# Altium integrated library Infineon_Power_MOSFET.IntLib: 1448 symbols (part 11 of 47)
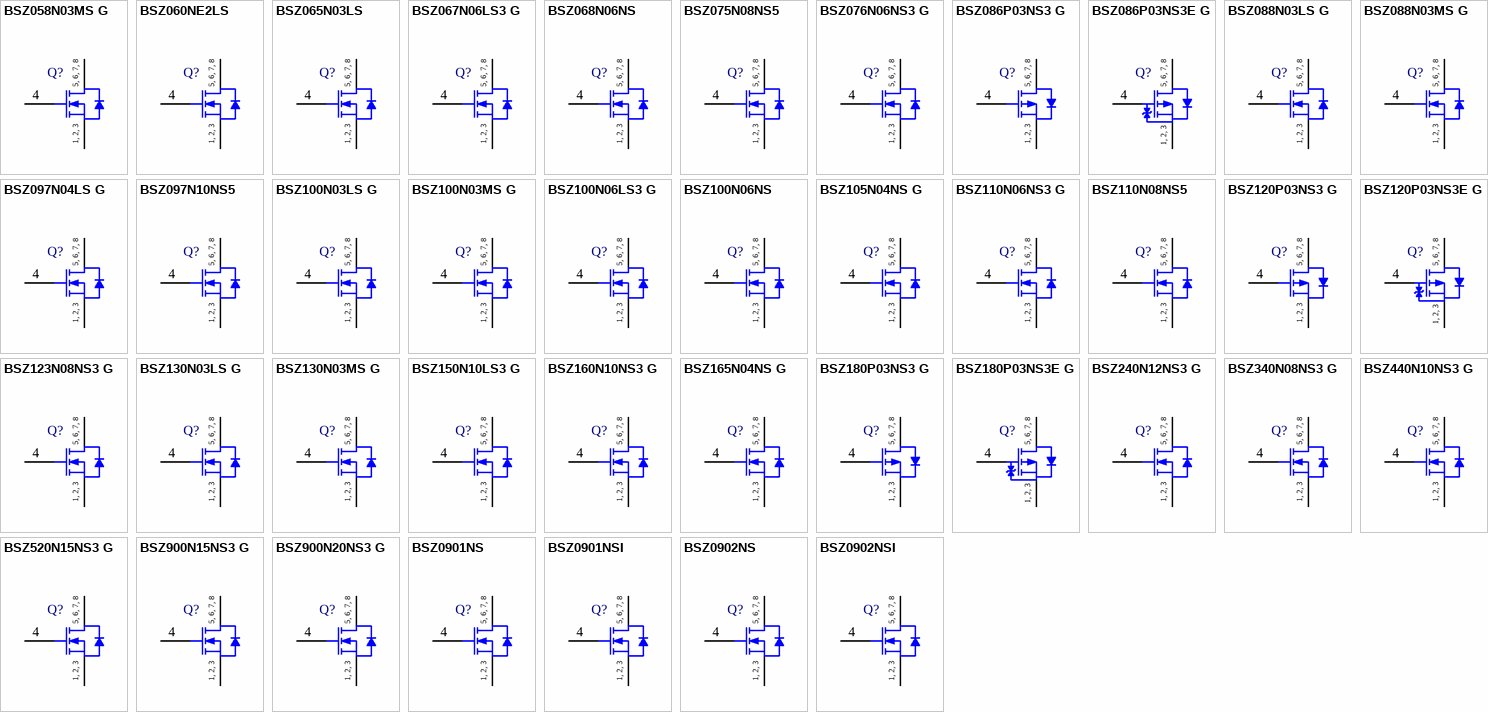
[diagram p47: symbols BSZ058N03MS G to BSZ0902NSI]

## BSZ123N08NS3 G
designator Q?
N-Channel OptiMOS 3 Power-Transistor, 80 V VDS, 40 A ID, -55 to 150 degC, PG-TSDSON-8-21, Reel, Green; Manufacturer: Infineon; PartNumber: BSZ123N08NS3 G; Green: TRUE; ID (max): 40 A; IDpuls (max): 160 A; Polarity: N; Ptot (max): 66 W; QG: 19 nC; RDS (on) (max): 12.3 mOhm; Rth: 1.9 K/W; RthJA (max): 60 K/W; VDS (max): 80 V; VGS(th) (max): 3.5 V; VGS(th) (min): 2 V; DatasheetVersion: Rev. 2.4; PackageVersion: Rev. 01, 03/2007; PackageReference: PG-TSDSON-8-21; PackageDescription: 8-Pin Plastic (Green) Small Outline Non-Leaded Package, 3.3 x 3.3 mm Body, 0.65 mm Pitch; Supplier 1: Mouser; Supplier Part Number 1: 726-BSZ123N08NS3G; Supplier 2: Newark; Supplier Part Number 2: 60R2542; Supplier 3: Farnell; Supplier Part Number 3: 1775505; Supplier 4: Digi-Key; Supplier Part Number 4: BSZ123N08NS3GINTR-ND; Supplier 5: Digi-Key; Supplier Part Number 5: BSZ123N08NS3GINCT-ND; Supplier 6: Digi-Key; Supplier Part Number 6: BSZ123N08NS3GINDKR-ND; Halogen-free: TRUE; Packing: Reel; RthJC (max): 1.9 K/W; Mounting Technology: Surface Mount; ComponentLink1Description: Manufacturer URL; ComponentLink1URL: http://www.infineon.com/; ComponentLink2Description: Datasheet; ComponentLink2URL: http://www.infineon.com/dgdl/BSZ123N08NS3G_rev2.4.pdf?folderId=db3a304313b8b5a60113cee8763b02d7&fileId=db3a30431ddc9372011e5ec96fdc0a00; ComponentLink3Description: Package Specification; ComponentLink3URL: http://www.infineon.com/dgdl/BSZ110N06NS3_Rev2.4.pdf?folderId=db3a30431ddc9372011ebafa04517f8b&fileId=db3a30431ddc9372011ebb15d4e8001a
footprint INF-PG-TSDSON-8-21_V (SON, 8-Leads, Body 3.3x3.3mm, Pitch 0.65mm)
pins: 1 SOURCE, 2 SOURCE, 3 SOURCE, 4 GATE, 5 DRAIN, 6 DRAIN, 7 DRAIN, 8 DRAIN
text: 5, 6, 7, 8; 1, 2, 3

## BSZ130N03LS G
designator Q?
N-Channel OptiMOS 3 Power-MOSFET, 30 V VDS, 35 A ID, -55 to 150 degC, PG-TSDSON-8-1, Reel, Green; Manufacturer: Infineon; PartNumber: BSZ130N03LS G; Green: TRUE; ID (max): 35 A; IDpuls (max): 140 A; Polarity: N; Ptot (max): 25 W; QG: 5 nC; RDS (on) (max): 13 mOhm; RDS (on) (max) (@4.5V): 17 mOhm; Rth: 5 K/W; RthJA (max): 60 K/W; VDS (max): 30 V; VGS(th) (max): 2.2 V; VGS(th) (min): 1 V; DatasheetVersion: Rev. 2.0; PackageVersion: Rev. 01, 03/2007; PackageReference: PG-TSDSON-8-1; PackageDescription: 8-Pin Plastic (Green) Thin Dual Small Outline Non-Leaded Package, 3.3 x 3.3 mm Body, 0.65 mm Pitch; Supplier 1: Mouser; Supplier Part Number 1: 726-BSZ130N03LSG; Supplier 2: Digi-Key; Supplier Part Number 2: BSZ130N03LSGINTR-ND; Supplier 3: Digi-Key; Supplier Part Number 3: BSZ130N03LSGINCT-ND; Supplier 4: Digi-Key; Supplier Part Number 4: BSZ130N03LSGINDKR-ND; Halogen-free: TRUE; Packing: Reel; RthJC (max): 5 K/W; Mounting Technology: Surface Mount; ComponentLink1Description: Manufacturer URL; ComponentLink1URL: http://www.infineon.com/; ComponentLink2Description: Datasheet; ComponentLink2URL: http://www.infineon.com/dgdl/BSZ130N03LS_rev2.pdf?folderId=db3a304313b8b5a60113cee8ed2a02db&fileId=db3a304313b8b5a60113d4035f8203fc; ComponentLink3Description: Package Specification; ComponentLink3URL: http://www.infineon.com/dgdl/BSZ100N06LS3_rev2.3.pdf?folderId=db3a30431ddc9372011ebafa04517f8b&fileId=db3a30431ddc9372011ebb132c97000a
footprint INF-PG-TSDSON-8-1_A_V (TSDSON, 8-Leads, Body 3.3x3.3mm, Pitch 0.65mm)
pins: 1 SOURCE, 2 SOURCE, 3 SOURCE, 4 GATE, 5 DRAIN, 6 DRAIN, 7 DRAIN, 8 DRAIN
text: 5, 6, 7, 8; 1, 2, 3

## BSZ130N03MS G
designator Q?
N-Channel OptiMOS 3 M-Series Power-MOSFET, 30 V VDS, 35 A ID, -55 to 150 degC, PG-TSDSON-8-1, Reel, Green; Manufacturer: Infineon; PartNumber: BSZ130N03MS G; Green: TRUE; ID (max): 35 A; IDpuls (max): 140 A; Polarity: N; Ptot (max): 25 W; QG: 6.1 nC; RDS (on) (max): 11.5 mOhm; RDS (on) (max) (@4.5V): 15 mOhm; Rth: 5 K/W; RthJA (max): 60 K/W; VDS (max): 30 V; VGS(th) (max): 2 V; VGS(th) (min): 1 V; DatasheetVersion: Rev. 2.0; PackageVersion: Rev. 01, 03/2007; PackageReference: PG-TSDSON-8-1; PackageDescription: 8-Pin Plastic (Green) Thin Dual Small Outline Non-Leaded Package, 3.3 x 3.3 mm Body, 0.65 mm Pitch; Supplier 1: Mouser; Supplier Part Number 1: 726-BSZ130N03MSG; Supplier 2: Farnell; Supplier Part Number 2: 1775507; Supplier 3: Digi-Key; Supplier Part Number 3: BSZ130N03MSGINTR-ND; Supplier 4: Digi-Key; Supplier Part Number 4: BSZ130N03MSGINCT-ND; Supplier 5: Digi-Key; Supplier Part Number 5: BSZ130N03MSGINDKR-ND; Halogen-free: TRUE; Packing: Reel; RthJC (max): 5 K/W; Mounting Technology: Surface Mount; ComponentLink1Description: Manufacturer URL; ComponentLink1URL: http://www.infineon.com/; ComponentLink2Description: Datasheet; ComponentLink2URL: http://www.infineon.com/dgdl/BSZ130N03MSG_rev2.pdf?folderId=db3a304313d846880113d91d60c500c4&fileId=db3a304313d846880113de3b1fda0321; ComponentLink3Description: Package Specification; ComponentLink3URL: http://www.infineon.com/dgdl/BSZ100N06LS3_rev2.3.pdf?folderId=db3a30431ddc9372011ebafa04517f8b&fileId=db3a30431ddc9372011ebb132c97000a
footprint INF-PG-TSDSON-8-1_A_V (TSDSON, 8-Leads, Body 3.3x3.3mm, Pitch 0.65mm)
pins: 1 SOURCE, 2 SOURCE, 3 SOURCE, 4 GATE, 5 DRAIN, 6 DRAIN, 7 DRAIN, 8 DRAIN
text: 5, 6, 7, 8; 1, 2, 3

## BSZ150N10LS3 G
designator Q?
N-Channel OptiMOS 3 Power-Transistor, 100 V VDS, 40 A ID, -55 to 150 degC, PG-TSDSON-8-1, Reel, Green; Manufacturer: Infineon; PartNumber: BSZ150N10LS3 G; Green: TRUE; ID (max): 40 A; IDpuls (max): 160 A; Polarity: N; Ptot (max): 63 W; QG: 26 nC; RDS (on) (max): 15 mOhm; RDS (on) (max) (@4.5V): 20 mOhm; Rth: 2 K/W; RthJA (max): 62 K/W; VDS (max): 100 V; VGS(th) (max): 2.1 V; VGS(th) (min): 1.1 V; DatasheetVersion: Rev. 2.2; PackageVersion: Rev. 01, 03/2007; PackageReference: PG-TSDSON-8-1; PackageDescription: 8-Pin Plastic (Green) Thin Dual Small Outline Non-Leaded Package, 3.3 x 3.3 mm Body, 0.65 mm Pitch; Halogen-free: TRUE; Packing: Reel; RthJC (max): 2 K/W; Mounting Technology: Surface Mount; ComponentLink1Description: Manufacturer URL; ComponentLink1URL: http://www.infineon.com/; ComponentLink2Description: Datasheet; ComponentLink2URL: http://www.infineon.com/dgdl/BSZ150N10LS3+G_rev2.2.pdf?folderId=db3a304313b8b5a60113cee8763b02d7&fileId=db3a30433c8a9179013c8aa12472000f; ComponentLink3Description: Package Specification; ComponentLink3URL: http://www.infineon.com/dgdl/BSZ100N06LS3_rev2.3.pdf?folderId=db3a30431ddc9372011ebafa04517f8b&fileId=db3a30431ddc9372011ebb132c97000a
footprint INF-PG-TSDSON-8-1_A_V (TSDSON, 8-Leads, Body 3.3x3.3mm, Pitch 0.65mm)
pins: 1 SOURCE, 2 SOURCE, 3 SOURCE, 4 GATE, 5 DRAIN, 6 DRAIN, 7 DRAIN, 8 DRAIN
text: 5, 6, 7, 8; 1, 2, 3

## BSZ160N10NS3 G
designator Q?
N-Channel OptiMOS 3 Power-Transistor, 100 V VDS, 40 A ID, -55 to 150 degC, PG-TSDSON-8-1, Reel, Green; Manufacturer: Infineon; PartNumber: BSZ160N10NS3 G; Green: TRUE; ID (max): 40 A; IDpuls (max): 160 A; Polarity: N; Ptot (max): 63 W; QG: 19 nC; RDS (on) (max): 16 mOhm; Rth: 2.1 K/W; RthJA (max): 62 K/W; VDS (max): 100 V; VGS(th) (max): 3.5 V; VGS(th) (min): 2 V; DatasheetVersion: Rev. 1.2; PackageVersion: Rev. 02, 09/2008; PackageReference: PG-TSDSON-8-1; PackageDescription: 8-Pin Plastic (Green) Thin Dual Small Outline Non-Leaded Package, 3.3 x 3.3 mm Body, 0.65 mm Pitch; Supplier 1: Mouser; Supplier Part Number 1: 726-BSZ160N10NS3G; Supplier 2: Newark; Supplier Part Number 2: 47W3365; Supplier 3: Farnell; Supplier Part Number 3: 2212820; Supplier 4: Digi-Key; Supplier Part Number 4: BSZ160N10NS3 GINTR-ND; Supplier 5: Digi-Key; Supplier Part Number 5: BSZ160N10NS3 GINCT-ND; Supplier 6: Digi-Key; Supplier Part Number 6: BSZ160N10NS3 GINDKR-ND; Halogen-free: TRUE; Packing: Reel; RthJC (max): 2.1 K/W; Mounting Technology: Surface Mount; ComponentLink1Description: Manufacturer URL; ComponentLink1URL: http://www.infineon.com/; ComponentLink2Description: Datasheet; ComponentLink2URL: http://www.infineon.com/dgdl/BSZ160N10N3SG_rev1.2.pdf?folderId=db3a304313b8b5a60113cee8763b02d7&fileId=db3a304320896aa20120c3365eef2370; ComponentLink3Description: Package Specification; ComponentLink3URL: http://www.infineon.com/dgdl/BSZ240N12NS3+Rev2.0.pdf?folderId=db3a304313b8b5a60113cee8763b02d7&fileId=db3a30432a40a650012a42f3057a0038
footprint INF-PG-TSDSON-8-1_V (TSDSON, 8-Leads, Body 3.3x3.3mm, Pitch 0.65mm)
pins: 1 SOURCE, 2 SOURCE, 3 SOURCE, 4 GATE, 5 DRAIN, 6 DRAIN, 7 DRAIN, 8 DRAIN
text: 5, 6, 7, 8; 1, 2, 3

## BSZ165N04NS G
designator Q?
N-Channel OptiMOS 3 Power-Transistor, 40 V VDS, 31 A ID, -55 to 150 degC, PG-TSDSON-8-1, Reel, Green; Manufacturer: Infineon; PartNumber: BSZ165N04NS G; Green: TRUE; ID (max): 31 A; IDpuls (max): 124 A; Polarity: N; Ptot (max): 25 W; QG: 7.8 nC; RDS (on) (max): 16.5 mOhm; Rth: 5 K/W; RthJA (max): 60 K/W; VDS (max): 40 V; VGS(th) (max): 4 V; VGS(th) (min): 2 V; DatasheetVersion: Rev. 2.0; PackageVersion: Rev. 01, 03/2007; PackageReference: PG-TSDSON-8-1; PackageDescription: 8-Pin Plastic (Green) Thin Dual Small Outline Non-Leaded Package, 3.3 x 3.3 mm Body, 0.65 mm Pitch; Supplier 1: Mouser; Supplier Part Number 1: 726-BSZ165N04NSG; Supplier 2: Newark; Supplier Part Number 2: 60R2545; Supplier 3: Farnell; Supplier Part Number 3: 1775508; Supplier 4: Digi-Key; Supplier Part Number 4: BSZ165N04NSGINTR-ND; Supplier 5: Digi-Key; Supplier Part Number 5: BSZ165N04NSGINCT-ND; Supplier 6: Digi-Key; Supplier Part Number 6: BSZ165N04NSGINDKR-ND; Halogen-free: TRUE; Packing: Reel; RthJC (max): 5 K/W; Mounting Technology: Surface Mount; ComponentLink1Description: Manufacturer URL; ComponentLink1URL: http://www.infineon.com/; ComponentLink2Description: Datasheet; ComponentLink2URL: http://www.infineon.com/dgdl/BSZ165N04NSG_rev2.pdf?folderId=db3a3043156fd5730115c7d50620107c&fileId=db3a30431689f4420116c48a64960872; ComponentLink3Description: Package Specification; ComponentLink3URL: http://www.infineon.com/dgdl/BSZ100N06LS3_rev2.3.pdf?folderId=db3a30431ddc9372011ebafa04517f8b&fileId=db3a30431ddc9372011ebb132c97000a
footprint INF-PG-TSDSON-8-1_A_V (TSDSON, 8-Leads, Body 3.3x3.3mm, Pitch 0.65mm)
pins: 1 SOURCE, 2 SOURCE, 3 SOURCE, 4 GATE, 5 DRAIN, 6 DRAIN, 7 DRAIN, 8 DRAIN
text: 5, 6, 7, 8; 1, 2, 3

## BSZ180P03NS3 G
designator Q?
P-Channel OptiMOS P3 Power-Transistor, -30 V VDS, -39.6 A ID, -55 to 150 degC, PG-TSDSON-8-1, Reel, Green; Manufacturer: Infineon; PartNumber: BSZ180P03NS3 G; Green: TRUE; ID (max): -39.6 A; IDpuls (max): -158 A; Pto t (max): 40 W; QG: 20 nC; RDS (on) (max): 18 mOhm; Rth: 3.1 K/W; VDS (max): -30 V; VGS(th) (max): -1.9 V; VGS(th) (min): -3.1 V; DatasheetVersion: Rev. 2.1; PackageVersion: Rev. 02, 09/2008; PackageReference: PG-TSDSON-8-1; PackageDescription: 8-Pin Plastic (Green) Thin Dual Small Outline Non-Leaded Package, 3.3 x 3.3 mm Body, 0.65 mm Pitch; Supplier 1: Mouser; Supplier Part Number 1: 726-BSZ180P03NS3G; Supplier 2: Digi-Key; Supplier Part Number 2: BSZ180P03NS3 G-ND; Halogen-free: TRUE; Packing: Reel; RthJC (max): 3.1 K/W; Mounting Technology: Surface Mount; ComponentLink1Description: Manufacturer URL; ComponentLink1URL: http://www.infineon.com/; ComponentLink2Description: Datasheet; ComponentLink2URL: http://www.infineon.com/dgdl/BSZ180P03NS3+G_2+1.pdf?folderId=db3a304314dca38901154a7313d21a66&fileId=db3a304326dfb13001271f04398f4ec1; ComponentLink3Description: Package Specification; ComponentLink3URL: http://www.infineon.com/dgdl/BSZ240N12NS3+Rev2.0.pdf?folderId=db3a304313b8b5a60113cee8763b02d7&fileId=db3a30432a40a650012a42f3057a0038
footprint INF-PG-TSDSON-8-1_V (TSDSON, 8-Leads, Body 3.3x3.3mm, Pitch 0.65mm)
pins: 1 SOURCE, 2 SOURCE, 3 SOURCE, 4 GATE, 5 DRAIN, 6 DRAIN, 7 DRAIN, 8 DRAIN
text: 5, 6, 7, 8; 1, 2, 3

## BSZ180P03NS3E G
designator Q?
P-Channel OptiMOS P3 Power-Transistor, -30 V VDS, -39.6 A ID, -55 to 150 degC, PG-TSDSON-8-1, Reel, Green; Manufacturer: Infineon; PartNumber: BSZ180P03NS3E G; Green: TRUE; ID (max): -39.6 A; IDpuls (max): -158 A; Pto t (max): 40 W; QG: 20 nC; RDS (on) (max): 18 mOhm; Rth: 3.1 K/W; VDS (max): -30 V; VGS(th) (max): -1.9 V; VGS(th) (min): -3.1 V; DatasheetVersion: Rev. 2.1; PackageVersion: Rev. 02, 09/2008; PackageReference: PG-TSDSON-8-1; PackageDescription: 8-Pin Plastic (Green) Thin Dual Small Outline Non-Leaded Package, 3.3 x 3.3 mm Body, 0.65 mm Pitch; Supplier 1: Mouser; Supplier Part Number 1: 726-BSZ180P03NS3EG; Supplier 2: Digi-Key; Supplier Part Number 2: BSZ180P03NS3E G-ND; Halogen-free: TRUE; Packing: Reel; RthJC (max): 3.1 K/W; Mounting Technology: Surface Mount; ComponentLink1Description: Manufacturer URL; ComponentLink1URL: http://www.infineon.com/; ComponentLink2Description: Datasheet; ComponentLink2URL: http://www.infineon.com/dgdl/BSZ180P03NS3E+G_2.1.pdf?folderId=db3a304314dca38901154a7313d21a66&fileId=db3a304324fc7f9a0124fdf6df190050; ComponentLink3Description: Package Specification; ComponentLink3URL: http://www.infineon.com/dgdl/BSZ240N12NS3+Rev2.0.pdf?folderId=db3a304313b8b5a60113cee8763b02d7&fileId=db3a30432a40a650012a42f3057a0038
footprint INF-PG-TSDSON-8-1_V (TSDSON, 8-Leads, Body 3.3x3.3mm, Pitch 0.65mm)
pins: 1 S, 2 S, 3 S, 4 G, 5 D, 6 D, 7 D, 8 D
text: 5, 6, 7, 8; 1, 2, 3

## BSZ240N12NS3 G
designator Q?
N-Channel OptiMOS 3 Power-Transistor, 120 V VDS, 37 A ID, -55 to 150 degC, PG-TSDSON-8-1, Reel, Green; Manufacturer: Infineon; PartNumber: BSZ240N12NS3 G; Green: TRUE; ID (max): 37 A; IDpuls (max): 148 A; Polarity: N; Ptot (max): 66 W; QG: 20 nC; RDS (on) (max): 24 mOhm; Rth: 1.9 K/W; RthJA (max): 60 K/W; VDS (max): 120 V; VGS(th) (max): 4 V; VGS(th) (min): 2 V; DatasheetVersion: Rev. 2.0; PackageVersion: Rev. 01, 03/2007; PackageReference: PG-TSDSON-8-1; PackageDescription: 8-Pin Plastic (Green) Thin Dual Small Outline Non-Leaded Package, 3.3 x 3.3 mm Body, 0.65 mm Pitch; Supplier 1: Mouser; Supplier Part Number 1: 726-BSZ240N12NS3G; Supplier 2: Digi-Key; Supplier Part Number 2: BSZ240N12NS3 GTR-ND; Supplier 3: Digi-Key; Supplier Part Number 3: BSZ240N12NS3 GCT-ND; Supplier 4: Digi-Key; Supplier Part Number 4: BSZ240N12NS3 GDKR-ND; Halogen-free: TRUE; Packing: Reel; RthJC (max): 1.9 K/W; Mounting Technology: Surface Mount; ComponentLink1Description: Manufacturer URL; ComponentLink1URL: http://www.infineon.com/; ComponentLink2Description: Datasheet; ComponentLink2URL: http://www.infineon.com/dgdl/BSZ240N12NS3+Rev2.pdf?folderId=db3a304313b8b5a60113cee8763b02d7&fileId=db3a30432a40a650012a42f3057a0038; ComponentLink3Description: Package Specification; ComponentLink3URL: http://www.infineon.com/dgdl/BSZ100N06LS3_rev2.3.pdf?folderId=db3a30431ddc9372011ebafa04517f8b&fileId=db3a30431ddc9372011ebb132c97000a
footprint INF-PG-TSDSON-8-1_A_V (TSDSON, 8-Leads, Body 3.3x3.3mm, Pitch 0.65mm)
pins: 1 SOURCE, 2 SOURCE, 3 SOURCE, 4 GATE, 5 DRAIN, 6 DRAIN, 7 DRAIN, 8 DRAIN
text: 5, 6, 7, 8; 1, 2, 3

## BSZ340N08NS3 G
designator Q?
N-Channel OptiMOS 3 Power-Transistor, 80 V VDS, 23 A ID, -55 to 150 degC, PG-TSDSON-8-1, Reel, Green; Manufacturer: Infineon; PartNumber: BSZ340N08NS3 G; Green: TRUE; ID (max): 23 A; IDpuls (max): 92 A; Polarity: N; Ptot (max): 32 W; QG: 6.8 nC; RDS (on) (max): 34 mOhm; RDS (on) (max) (@4.5V): 66 mOhm; Rth: 3.9 K/W; RthJA (max): 60 K/W; VDS (max): 80 V; VGS(th) (max): 3.5 V; VGS(th) (min): 2 V; DatasheetVersion: Rev. 2.3; PackageVersion: Rev. 02, 09/2008; PackageReference: PG-TSDSON-8-1; PackageDescription: 8-Pin Plastic (Green) Thin Dual Small Outline Non-Leaded Package, 3.3 x 3.3 mm Body, 0.65 mm Pitch; Supplier 1: Mouser; Supplier Part Number 1: 726-BSZ340N08NS3G; Supplier 2: Newark; Supplier Part Number 2: 47W3366; Supplier 3: Farnell; Supplier Part Number 3: 2212852; Supplier 4: Digi-Key; Supplier Part Number 4: BSZ340N08NS3GINTR-ND; Supplier 5: Digi-Key; Supplier Part Number 5: BSZ340N08NS3GINCT-ND; Supplier 6: Digi-Key; Supplier Part Number 6: BSZ340N08NS3GINDKR-ND; Halogen-free: TRUE; Packing: Reel; RthJC (max): 3.9 K/W; Mounting Technology: Surface Mount; ComponentLink1Description: Manufacturer URL; ComponentLink1URL: http://www.infineon.com/; ComponentLink2Description: Datasheet; ComponentLink2URL: http://www.infineon.com/dgdl/BSZ340N08NS3G_rev2.3.pdf?folderId=db3a304313b8b5a60113cee8763b02d7&fileId=db3a30431ff9881501206626660b6c72; ComponentLink3Description: Package Specification; ComponentLink3URL: http://www.infineon.com/dgdl/BSZ240N12NS3+Rev2.0.pdf?folderId=db3a304313b8b5a60113cee8763b02d7&fileId=db3a30432a40a650012a42f3057a0038
footprint INF-PG-TSDSON-8-1_V (TSDSON, 8-Leads, Body 3.3x3.3mm, Pitch 0.65mm)
pins: 1 SOURCE, 2 SOURCE, 3 SOURCE, 4 GATE, 5 DRAIN, 6 DRAIN, 7 DRAIN, 8 DRAIN
text: 5, 6, 7, 8; 1, 2, 3

## BSZ440N10NS3 G
designator Q?
N-Channel OptiMOS 3 Power-Transistor, 100 V VDS, 18 A ID, -55 to 150 degC, PG-TSDSON-8-1, Reel, Green; Manufacturer: Infineon; PartNumber: BSZ440N10NS3 G; Green: TRUE; ID (max): 18 A; IDpuls (max): 72 A; Polarity: N; Ptot (max): 29 W; QG: 6.8 nC; RDS (on) (max): 44 mOhm; Rth: 4.3 K/W; RthJA (max): 50 K/W; VDS (max): 100 V; VGS(th) (max): 3.5 V; VGS(th) (min): 2 V; DatasheetVersion: Rev. 2.0; PackageVersion: Rev. 02, 09/2008; PackageReference: PG-TSDSON-8-1; PackageDescription: 8-Pin Plastic (Green) Thin Dual Small Outline Non-Leaded Package, 3.3 x 3.3 mm Body, 0.65 mm Pitch; Supplier 1: Mouser; Supplier Part Number 1: 726-BSZ440N10NS3G; Supplier 2: Newark; Supplier Part Number 2: 47W3367; Supplier 3: Farnell; Supplier Part Number 3: 2212840; Supplier 4: Digi-Key; Supplier Part Number 4: BSZ440N10NS3 GINTR-ND; Supplier 5: Digi-Key; Supplier Part Number 5: BSZ440N10NS3 GINCT-ND; Supplier 6: Digi-Key; Supplier Part Number 6: BSZ440N10NS3 GINDKR-ND; Halogen-free: TRUE; Packing: Reel; RthJC (max): 4.3 K/W; Mounting Technology: Surface Mount; ComponentLink1Description: Manufacturer URL; ComponentLink1URL: http://www.infineon.com/; ComponentLink2Description: Datasheet; ComponentLink2URL: http://www.infineon.com/dgdl/BSZ440N10NS3+Rev2.pdf?folderId=db3a304313b8b5a60113cee8763b02d7&fileId=db3a304320896aa20120c32dbf312354; ComponentLink3Description: Package Specification; ComponentLink3URL: http://www.infineon.com/dgdl/BSZ240N12NS3+Rev2.0.pdf?folderId=db3a304313b8b5a60113cee8763b02d7&fileId=db3a30432a40a650012a42f3057a0038
footprint INF-PG-TSDSON-8-1_V (TSDSON, 8-Leads, Body 3.3x3.3mm, Pitch 0.65mm)
pins: 1 SOURCE, 2 SOURCE, 3 SOURCE, 4 GATE, 5 DRAIN, 6 DRAIN, 7 DRAIN, 8 DRAIN
text: 5, 6, 7, 8; 1, 2, 3

## BSZ520N15NS3 G
designator Q?
N-Channel OptiMOS 3 Power-Transistor, 150 V VDS, 21 A ID, -55 to 150 degC, PG-TSDSON-8-1, Reel, Green; Manufacturer: Infineon; PartNumber: BSZ520N15NS3 G; Green: TRUE; ID (max): 21 A; IDpuls (max): 84 A; Polarity: N; Ptot (max): 57 W; QG: 8.7 nC; RDS (on) (max): 52 mOhm; Rth: 2.2 K/W; RthJA (max): 60 K/W; VDS (max): 150 V; VGS(th) (max): 4 V; VGS(th) (min): 2 V; DatasheetVersion: Rev. 2.2; PackageVersion: Rev. 01, 03/2007; PackageReference: PG-TSDSON-8-1; PackageDescription: 8-Pin Plastic (Green) Thin Dual Small Outline Non-Leaded Package, 3.3 x 3.3 mm Body, 0.65 mm Pitch; Supplier 1: Mouser; Supplier Part Number 1: 726-BSZ520N15NS3G; Supplier 2: Newark; Supplier Part Number 2: 47W3368; Supplier 3: Farnell; Supplier Part Number 3: 2212823; Supplier 4: Digi-Key; Supplier Part Number 4: BSZ520N15NS3 GTR-ND; Supplier 5: Digi-Key; Supplier Part Number 5: BSZ520N15NS3 GCT-ND; Supplier 6: Digi-Key; Supplier Part Number 6: BSZ520N15NS3 GDKR-ND; Halogen-free: TRUE; Packing: Reel; RthJC (max): 2.2 K/W; Mounting Technology: Surface Mount; ComponentLink1Description: Manufacturer URL; ComponentLink1URL: http://www.infineon.com/; ComponentLink2Description: Datasheet; ComponentLink2URL: http://www.infineon.com/dgdl/BSZ520N15NS3+Rev2.2.pdf?folderId=db3a304326623792012669f6bee2224b&fileId=db3a30432662379201266a0dd612226c; ComponentLink3Description: Package Specification; ComponentLink3URL: http://www.infineon.com/dgdl/BSZ100N06LS3_rev2.3.pdf?folderId=db3a30431ddc9372011ebafa04517f8b&fileId=db3a30431ddc9372011ebb132c97000a
footprint INF-PG-TSDSON-8-1_A_V (TSDSON, 8-Leads, Body 3.3x3.3mm, Pitch 0.65mm)
pins: 1 SOURCE, 2 SOURCE, 3 SOURCE, 4 GATE, 5 DRAIN, 6 DRAIN, 7 DRAIN, 8 DRAIN
text: 5, 6, 7, 8; 1, 2, 3

## BSZ900N15NS3 G
designator Q?
N-Channel OptiMOS 3 Power-Transistor, 150 V VDS, 13 A ID, -55 to 150 degC, PG-TSDSON-8-1, Reel, Green; Manufacturer: Infineon; PartNumber: BSZ900N15NS3 G; Green: TRUE; ID (max): 13 A; IDpuls (max): 52 A; Polarity: N; Ptot (max): 38 W; QG: 5 nC; RDS (on) (max): 90 mOhm; Rth: 3.3 K/W; RthJA (max): 60 K/W; VDS (max): 150 V; VGS(th) (max): 4 V; VGS(th) (min): 2 V; DatasheetVersion: Rev. 2.1; PackageVersion: Rev. 02, 09/2008; PackageReference: PG-TSDSON-8-1; PackageDescription: 8-Pin Plastic (Green) Thin Dual Small Outline Non-Leaded Package, 3.3 x 3.3 mm Body, 0.65 mm Pitch; Supplier 1: Mouser; Supplier Part Number 1: 726-BSZ900N15NS3G; Supplier 2: Digi-Key; Supplier Part Number 2: BSZ900N15NS3 GTR-ND; Supplier 3: Digi-Key; Supplier Part Number 3: BSZ900N15NS3 GCT-ND; Supplier 4: Digi-Key; Supplier Part Number 4: BSZ900N15NS3 GDKR-ND; Halogen-free: TRUE; Packing: Reel; RthJC (max): 3.3 K/W; Mounting Technology: Surface Mount; ComponentLink1Description: Manufacturer URL; ComponentLink1URL: http://www.infineon.com/; ComponentLink2Description: Datasheet; ComponentLink2URL: http://www.infineon.com/dgdl/BSZ900N15NS3+Rev2.1_.pdf?folderId=db3a304326623792012669f6bee2224b&fileId=db3a304326623792012669f7decc224c; ComponentLink3Description: Package Specification; ComponentLink3URL: http://www.infineon.com/dgdl/BSZ240N12NS3+Rev2.0.pdf?folderId=db3a304313b8b5a60113cee8763b02d7&fileId=db3a30432a40a650012a42f3057a0038
footprint INF-PG-TSDSON-8-1_V (TSDSON, 8-Leads, Body 3.3x3.3mm, Pitch 0.65mm)
pins: 1 SOURCE, 2 SOURCE, 3 SOURCE, 4 GATE, 5 DRAIN, 6 DRAIN, 7 DRAIN, 8 DRAIN
text: 5, 6, 7, 8; 1, 2, 3

## BSZ900N20NS3 G
designator Q?
N-Channel OptiMOS 3 Power-Transistor, 200 V VDS, 15.2 A ID, -55 to 150 degC, PG-TSDSON-8-1, Reel, Green; Manufacturer: Infineon; PartNumber: BSZ900N20NS3 G; Green: TRUE; ID (max): 15.2 A; IDpuls (max): 61 A; Polarity: N; Ptot (max): 62.5 W; QG: 8.7 nC; RDS (on) (max): 90 mOhm; Rth: 2.5 K/W; RthJA (max): 60 K/W; VDS (max): 200 V; VGS(th) (max): 4 V; VGS(th) (min): 2 V; DatasheetVersion: Rev. 2.2; PackageVersion: Rev. 01, 03/2007; PackageReference: PG-TSDSON-8-1; PackageDescription: 8-Pin Plastic (Green) Thin Dual Small Outline Non-Leaded Package, 3.3 x 3.3 mm Body, 0.65 mm Pitch; Supplier 1: Newark; Supplier Part Number 1: 79X1341; Supplier 2: Farnell; Supplier Part Number 2: 2432723; Supplier 3: Digi-Key; Supplier Part Number 3: BSZ900N20NS3GTR-ND; Supplier 4: Digi-Key; Supplier Part Number 4: BSZ900N20NS3GCT-ND; Supplier 5: Digi-Key; Supplier Part Number 5: BSZ900N20NS3GDKR-ND; Halogen-free: TRUE; Packing: Reel; RthJC (max): 2.5 K/W; Mounting Technology: Surface Mount; ComponentLink1Description: Manufacturer URL; ComponentLink1URL: http://www.infineon.com/; ComponentLink2Description: Datasheet; ComponentLink2URL: http://www.infineon.com/dgdl/BSZ900N20NS3+Rev2.2.pdf?folderId=db3a304325305e6d012596c6ca7b290a&fileId=db3a30432ad629a6012b15f1be561a9b; ComponentLink3Description: Package Specification; ComponentLink3URL: http://www.infineon.com/dgdl/BSZ100N06LS3_rev2.3.pdf?folderId=db3a30431ddc9372011ebafa04517f8b&fileId=db3a30431ddc9372011ebb132c97000a
footprint INF-PG-TSDSON-8-1_A_V (TSDSON, 8-Leads, Body 3.3x3.3mm, Pitch 0.65mm)
pins: 1 SOURCE, 2 SOURCE, 3 SOURCE, 4 GATE, 5 DRAIN, 6 DRAIN, 7 DRAIN, 8 DRAIN
text: 5, 6, 7, 8; 1, 2, 3

## BSZ0901NS
designator Q?
N-Channel OptiMOS Power-MOSFET, 30 V VDS, 40 A ID, -55 to 150 degC, PG-TSDSON-8, Reel, Green; Manufacturer: Infineon; PartNumber: BSZ0901NS; Green: TRUE; ID (max): 40 A; IDpuls (max): 160 A; Polarity: N; Ptot (max): 50 W; QG: 45 nC; RDS (on) (max): 2 mOhm; RDS (on) (max) (@4.5V): 2.6 mOhm; Rth: 2.5 K/W; RthJA (max): 60 K/W; RthJC (max): 2.5 K/W; VDS (max): 30 V; VGS(th) (max): 2 V; VGS(th) (min): 1.2 V; DatasheetVersion: Rev. 2.1; PackageVersion: Rev. 02, 12/2010; PackageReference: PG-TSDSON-8; PackageDescription: 8-Pin Plastic (Green) Thin Dual Small Outline Non-Leaded Package, 3.3 x 3.3 mm Body, 0.65 mm Pitch; Supplier 1: Mouser; Supplier Part Number 1: 726-BSZ0901NS; Supplier 2: Digi-Key; Supplier Part Number 2: BSZ0901NSTR-ND; Supplier 3: Digi-Key; Supplier Part Number 3: BSZ0901NSCT-ND; Supplier 4: Digi-Key; Supplier Part Number 4: BSZ0901NSDKR-ND; Halogen-free: TRUE; Packing: Reel; Mounting Technology: Surface Mount; ComponentLink1Description: Manufacturer URL; ComponentLink1URL: http://www.infineon.com/; ComponentLink2Description: Datasheet; ComponentLink2URL: http://www.infineon.com/dgdl/BSZ0901NS_Rev+2.1.pdf?folderId=db3a304313b8b5a60113cee8763b02d7&fileId=db3a30432f0d175c012f20f7321863dd; ComponentLink3Description: Package Specification; ComponentLink3URL: http://www.infineon.com/dgdl/DS_BSZ023N04LS_2_0_N.T..pdf?folderId=db3a304313b8b5a60113cee8763b02d7&fileId=db3a3043353fdc160135530f51f54823
footprint INF-PG-TSDSON-8_FL_V (TSDSON, 8-Leads, Body 3.3x3.3mm, Pitch 0.65mm)
pins: 1 SOURCE, 2 SOURCE, 3 SOURCE, 4 GATE, 5 DRAIN, 6 DRAIN, 7 DRAIN, 8 DRAIN
text: 5, 6, 7, 8; 1, 2, 3

## BSZ0901NSI
designator Q?
N-Channel OptiMOS Power-MOSFET, 30 V VDS, 40 A ID, -55 to 150 degC, PG-TSDSON-8, Reel, Green; Manufacturer: Infineon; PartNumber: BSZ0901NSI; Green: TRUE; ID (max): 40 A; IDpuls (max): 160 A; Polarity: N; Ptot (max): 69 W; QG: 41 nC; RDS (on) (max): 2.1 mOhm; RDS (on) (max) (@4.5V): 2.8 mOhm; Rth: 1.8 K/W; RthJA (max): 60 K/W; VDS (max): 30 V; VGS(th) (max): 2 V; VGS(th) (min): 1.2 V; DatasheetVersion: Rev. 2.1; PackageVersion: Rev. 02, 12/2010; PackageReference: PG-TSDSON-8; PackageDescription: 8-Pin Plastic (Green) Thin Dual Small Outline Non-Leaded Package, 3.3 x 3.3 mm Body, 0.65 mm Pitch; Supplier 1: Mouser; Supplier Part Number 1: 726-BSZ0901NSI; Supplier 2: Digi-Key; Supplier Part Number 2: BSZ0901NSITR-ND; Supplier 3: Digi-Key; Supplier Part Number 3: BSZ0901NSICT-ND; Supplier 4: Digi-Key; Supplier Part Number 4: BSZ0901NSIDKR-ND; Halogen-free: TRUE; Packing: Reel; RthJC (max): 1.8 K/W; Mounting Technology: Surface Mount; ComponentLink1Description: Manufacturer URL; ComponentLink1URL: http://www.infineon.com/; ComponentLink2Description: Datasheet; ComponentLink2URL: http://www.infineon.com/dgdl/BSZ0901NSI_Rev+2.1.pdf?folderId=db3a304313b8b5a60113cee8763b02d7&fileId=db3a30432f0d175c012f2550ff441cf9; ComponentLink3Description: Package Specification; ComponentLink3URL: http://www.infineon.com/dgdl/DS_BSZ023N04LS_2_0_N.T..pdf?folderId=db3a304313b8b5a60113cee8763b02d7&fileId=db3a3043353fdc160135530f51f54823
footprint INF-PG-TSDSON-8_FL_V (TSDSON, 8-Leads, Body 3.3x3.3mm, Pitch 0.65mm)
pins: 1 SOURCE, 2 SOURCE, 3 SOURCE, 4 GATE, 5 DRAIN, 6 DRAIN, 7 DRAIN, 8 DRAIN
text: 5, 6, 7, 8; 1, 2, 3

## BSZ0902NS
designator Q?
N-Channel OptiMOS Power-MOSFET, 30 V VDS, 40 A ID, -55 to 150 degC, PG-TSDSON-8, Reel, Green; Manufacturer: Infineon; PartNumber: BSZ0902NS; Green: TRUE; ID (max): 40 A; IDpuls (max): 160 A; Polarity: N; Ptot (max): 48 W; QG: 26 nC; RDS (on) (max): 2.6 mOhm; RDS (on) (max) (@4.5V): 3.5 mOhm; Rth: 2.6 K/W; RthJA (max): 60 K/W; VDS (max): 30 V; VGS(th) (max): 2 V; VGS(th) (min): 1.2 V; DatasheetVersion: Rev. 2.1; PackageVersion: Rev. 02, 12/2010; PackageReference: PG-TSDSON-8; PackageDescription: 8-Pin Plastic (Green) Thin Dual Small Outline Non-Leaded Package, 3.3 x 3.3 mm Body, 0.65 mm Pitch; Supplier 1: Mouser; Supplier Part Number 1: 726-BSZ0902NS; Supplier 2: Digi-Key; Supplier Part Number 2: BSZ0902NSTR-ND; Supplier 3: Digi-Key; Supplier Part Number 3: BSZ0902NSCT-ND; Supplier 4: Digi-Key; Supplier Part Number 4: BSZ0902NSDKR-ND; Halogen-free: TRUE; Packing: Reel; RthJC (max): 2.6 K/W; Mounting Technology: Surface Mount; ComponentLink1Description: Manufacturer URL; ComponentLink1URL: http://www.infineon.com/; ComponentLink2Description: Datasheet; ComponentLink2URL: http://www.infineon.com/dgdl/BSZ0902NS_Rev+2.1.pdf?folderId=db3a304313b8b5a60113cee8763b02d7&fileId=db3a30432f0d175c012f25d963971d2f; ComponentLink3Description: Package Specification; ComponentLink3URL: http://www.infineon.com/dgdl/DS_BSZ023N04LS_2_0_N.T..pdf?folderId=db3a304313b8b5a60113cee8763b02d7&fileId=db3a3043353fdc160135530f51f54823
footprint INF-PG-TSDSON-8_FL_V (TSDSON, 8-Leads, Body 3.3x3.3mm, Pitch 0.65mm)
pins: 1 SOURCE, 2 SOURCE, 3 SOURCE, 4 GATE, 5 DRAIN, 6 DRAIN, 7 DRAIN, 8 DRAIN
text: 5, 6, 7, 8; 1, 2, 3

## BSZ0902NSI
designator Q?
N-Channel OptiMOS Power-MOSFET, 30 V VDS, 40 A ID, -55 to 150 degC, PG-TSDSON-8, Reel, Green; Manufacturer: Infineon; PartNumber: BSZ0902NSI; Green: TRUE; ID (max): 40 A; IDpuls (max): 160 A; Polarity: N; Ptot (max): 48 W; QG: 24 nC; RDS (on) (max): 2.8 mOhm; RDS (on) (max) (@4.5V): 3.7 mOhm; Rth: 2.6 K/W; RthJA (max): 50 K/W; VDS (max): 30 V; VGS(th) (max): 2 V; VGS(th) (min): 1.2 V; DatasheetVersion: Rev. 2.0; PackageVersion: Rev. 02, 12/2010; PackageReference: PG-TSDSON-8; PackageDescription: 8-Pin Plastic (Green) Thin Dual Small Outline Non-Leaded Package, 3.3 x 3.3 mm Body, 0.65 mm Pitch; Supplier 1: Mouser; Supplier Part Number 1: 726-BSZ0902NSI; Supplier 2: Digi-Key; Supplier Part Number 2: BSZ0902NSITR-ND; Supplier 3: Digi-Key; Supplier Part Number 3: BSZ0902NSICT-ND; Supplier 4: Digi-Key; Supplier Part Number 4: BSZ0902NSIDKR-ND; Halogen-free: TRUE; Packing: Reel; RthJC (max): 2.6 K/W; Mounting Technology: Surface Mount; ComponentLink1Description: Manufacturer URL; ComponentLink1URL: http://www.infineon.com/; ComponentLink2Description: Datasheet; ComponentLink2URL: http://www.infineon.com/dgdl/BSZ0902NSI_Rev+2.pdf?folderId=db3a304313b8b5a60113cee8763b02d7&fileId=db3a30433072cd8f01308e38cc9c33f9; ComponentLink3Description: Package Specification; ComponentLink3URL: http://www.infineon.com/dgdl/DS_BSZ023N04LS_2_0_N.T..pdf?folderId=db3a304313b8b5a60113cee8763b02d7&fileId=db3a3043353fdc160135530f51f54823
footprint INF-PG-TSDSON-8_FL_V (TSDSON, 8-Leads, Body 3.3x3.3mm, Pitch 0.65mm)
pins: 1 SOURCE, 2 SOURCE, 3 SOURCE, 4 GATE, 5 DRAIN, 6 DRAIN, 7 DRAIN, 8 DRAIN
text: 5, 6, 7, 8; 1, 2, 3

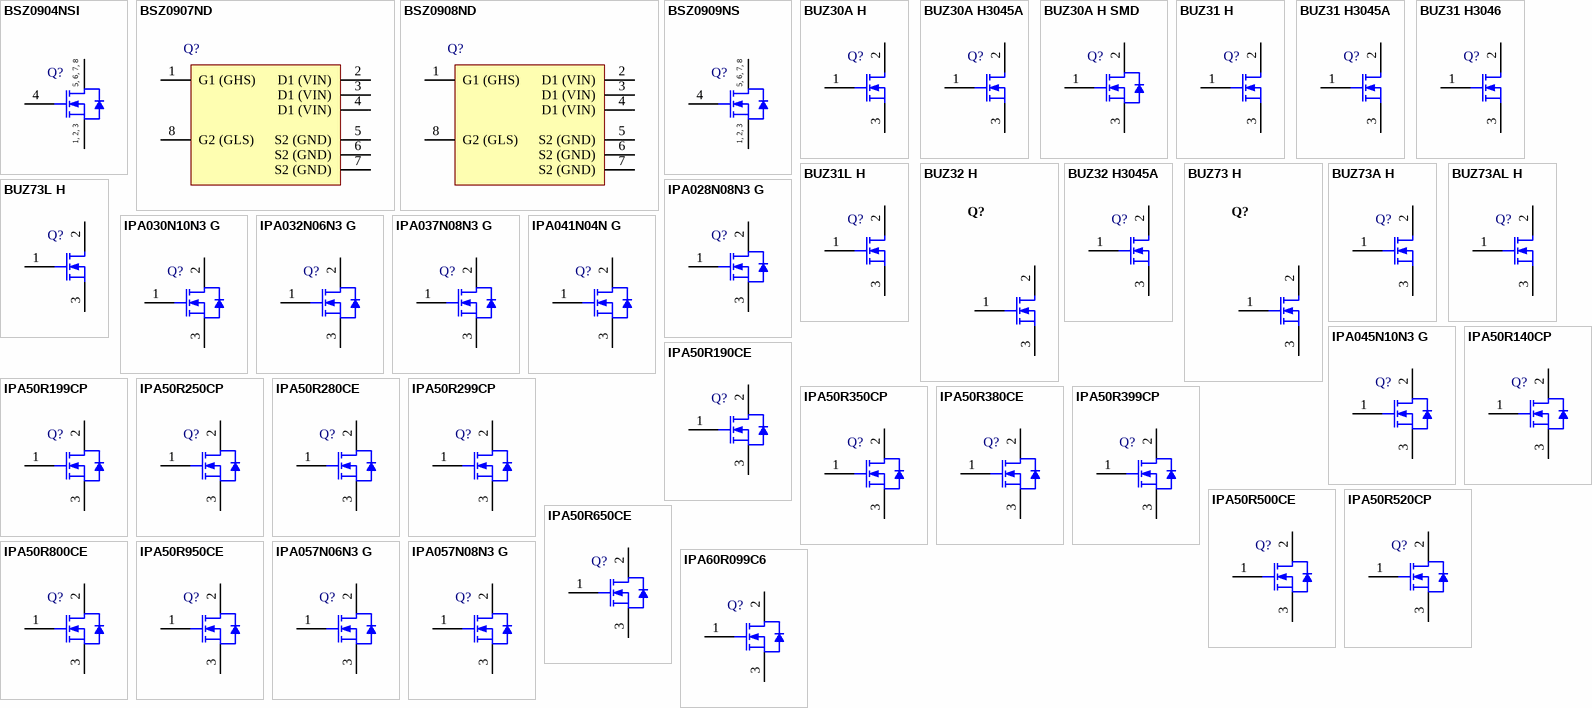
[diagram p9: symbols BSZ0904NSI to IPA60R099C6]

## BSZ0904NSI
designator Q?
N-Channel OptiMOS Power-MOSFET, 30 V VDS, 40 A ID, -55 to 150 degC, PG-TSDSON-8, Reel, Green; Manufacturer: Infineon; PartNumber: BSZ0904NSI; Green: TRUE; ID (max): 40 A; IDpuls (max): 160 A; Polarity: N; Ptot (max): 37 W; QG: 17 nC; RDS (on) (max): 4 mOhm; RDS (on) (max) (@4.5V): 5.7 mOhm; Rth: 3.4 K/W; RthJA (max): 60 K/W; VDS (max): 30 V; VGS(th) (max): 2 V; VGS(th) (min): 1.2 V; DatasheetVersion: Rev. 2.1; PackageVersion: Rev. 02, 12/2010; PackageReference: PG-TSDSON-8; PackageDescription: 8-Pin Plastic (Green) Thin Dual Small Outline Non-Leaded Package, 3.3 x 3.3 mm Body, 0.65 mm Pitch; Supplier 1: Mouser; Supplier Part Number 1: 726-BSZ0904NSI; Supplier 2: Digi-Key; Supplier Part Number 2: BSZ0904NSITR-ND; Supplier 3: Digi-Key; Supplier Part Number 3: BSZ0904NSICT-ND; Supplier 4: Digi-Key; Supplier Part Number 4: BSZ0904NSIDKR-ND; Halogen-free: TRUE; Packing: Reel; RthJC (max): 3.4 K/W; Mounting Technology: Surface Mount; ComponentLink1Description: Manufacturer URL; ComponentLink1URL: http://www.infineon.com/; ComponentLink2Description: Datasheet; ComponentLink2URL: http://www.infineon.com/dgdl/BSZ0904NSI_Rev+2.1.pdf?folderId=db3a304313b8b5a60113cee8763b02d7&fileId=db3a30432f29829e012f2a1ec7d90032; ComponentLink3Description: Package Specification; ComponentLink3URL: http://www.infineon.com/dgdl/DS_BSZ023N04LS_2_0_N.T..pdf?folderId=db3a304313b8b5a60113cee8763b02d7&fileId=db3a3043353fdc160135530f51f54823
footprint INF-PG-TSDSON-8_FL_V (TSDSON, 8-Leads, Body 3.3x3.3mm, Pitch 0.65mm)
pins: 1 SOURCE, 2 SOURCE, 3 SOURCE, 4 GATE, 5 DRAIN, 6 DRAIN, 7 DRAIN, 8 DRAIN
text: 5, 6, 7, 8; 1, 2, 3

## BSZ0907ND
designator Q?
N-Channel Dual OptiMOS MOSFET, 30 V, 30 V VDS, 25 A, 30 A ID, -55 to 150 degC, PG-WISON-8, Reel, Green; Manufacturer: Infineon; PartNumber: BSZ0907ND; Green: TRUE; IDpuls (max): 40 A; Polarity: N; Ptot (max): 1.9 W, 2.3 W; QG: 4.3 nC, 5.3 nC; RDS (on) (max): 9.5 mOhm, 7.2 mOhm; RDS (on) (max) (@4.5V): 13 mOhm, 10 mOhm; Rth: 4 K/W, 3.8 K/W; RthJA (max): 65 K/W 55 K/W; VGS(th) (max): 2 V; VGS(th) (min): 1.2 V; DatasheetVersion: Rev. 1.2; PackageVersion: Rev. 01, 09/2010; PackageReference: PG-WISON-8; PackageDescription: 8-Pin Plastic (Green) Small Outline Package, 3 x 3 mm Body, 0.65 mm Pitch; Halogen-free: TRUE; ID (max): 25 A, 30 A; Packing: Reel; RthJC (max): 4 K/W, 3.8 K/W; VDS (max): 30 V, 30 V; Mounting Technology: Surface Mount; ComponentLink1Description: Manufacturer URL; ComponentLink1URL: http://www.infineon.com/; ComponentLink2Description: Datasheet; ComponentLink2URL: http://www.infineon.com/dgdl/BSZ0907ND_Rev.1.2.pdf?folderId=db3a304313b8b5a60113cee8763b02d7&fileId=db3a304336c52a950136c9c1032048e8; ComponentLink3Description: Package Specification; ComponentLink3URL: http://www.infineon.com/dgdl/BSZ0908ND_Rev. 1.2.pdf?folderId=db3a304313b8b5a60113cee8763b02d7&fileId=db3a304336c52a950136c99edd0048b3
footprint INF-PG-WISON-8_V (WISON, 8-Leads, Body 3x3mm, Pitch 0.65mm)
pins: 1 G1 (GHS), 2 D1 (VIN), 3 D1 (VIN), 4 D1 (VIN), 5 S2 (GND), 6 S2 (GND), 7 S2 (GND), 8 G2 (GLS)

## BSZ0908ND
designator Q?
N-Channel PowerStage 3x3, 30 V VDS, 19 A, 30 A ID, -55 to 150 degC, PG-WISON-8, Reel, Green; Manufacturer: Infineon; PartNumber: BSZ0908ND; Green: TRUE; IDpuls (max): 40 A; Polarity: N; Ptot (max): 1.9 W, 2.3 W; QG: 2 nC, 4.3 nC; RDS (on) (max): 18 mOhm, 9 mOhm; RDS (on) (max) (@4.5V): 25 mOhm，12 mOhm; Rth: 7.5 K/W, 4 K/W; RthJA (max): 180 K/W，145 K/W; VDS (max): 30 V, 30 V; VGS(th) (max): 2 V; VGS(th) (min): 1.2 V; DatasheetVersion: Rev. 1.2; PackageVersion: Rev. 01, 09/2010; PackageReference: PG-WISON-8; PackageDescription: 8-Pin Plastic (Green) Small Outline Package, 3 x 3 mm Body, 0.65 mm Pitch; Halogen-free: TRUE; ID (max): 19 A, 30 A; Packing: Reel; RthJC (max): 7.5 K/W, 4 K/W; Mounting Technology: Surface Mount; ComponentLink1Description: Manufacturer URL; ComponentLink1URL: http://www.infineon.com/; ComponentLink2Description: Datasheet; ComponentLink2URL: http://www.infineon.com/dgdl/BSZ0908ND_Rev.1.2.pdf?folderId=db3a304313b8b5a60113cee8763b02d7&fileId=db3a304336c52a950136c99edd0048b3; ComponentLink3Description: Package Specification; ComponentLink3URL: http://www.infineon.com/dgdl/BSZ0908ND_Rev. 1.2.pdf?folderId=db3a304313b8b5a60113cee8763b02d7&fileId=db3a304336c52a950136c99edd0048b3
footprint INF-PG-WISON-8_V (WISON, 8-Leads, Body 3x3mm, Pitch 0.65mm)
pins: 1 G1 (GHS), 2 D1 (VIN), 3 D1 (VIN), 4 D1 (VIN), 5 S2 (GND), 6 S2 (GND), 7 S2 (GND), 8 G2 (GLS)

## BSZ0909NS
designator Q?
N-Channel OptiMOS Power-MOSFET, 34 V VDS, 36 A ID, -55 to 150 degC, PG-TSDSON-8-1, Reel, Green; Manufacturer: Infineon; PartNumber: BSZ0909NS; Green: TRUE; ID (max): 36 A; IDpuls (max): 144 A; Polarity: N; Ptot (max): 25 W; QG: 6.1 nC; RDS (on) (max): 12 mOhm; RDS (on) (max) (@4.5V): 15 mOhm; Rth: 5.1 K/W; RthJA (max): 60 K/W; VDS (max): 30 V; VGS(th) (max): 2 V; VGS(th) (min): 1.2 V; DatasheetVersion: Rev. 3.2; PackageVersion: Rev. 02, 09/2008; PackageReference: PG-TSDSON-8-1; PackageDescription: 8-Pin Plastic (Green) Thin Dual Small Outline Non-Leaded Package, 3.3 x 3.3 mm Body, 0.65 mm Pitch; Supplier 1: Mouser; Supplier Part Number 1: 726-BSZ0909NS; Supplier 2: Digi-Key; Supplier Part Number 2: BSZ0909NSTR-ND; Supplier 3: Digi-Key; Supplier Part Number 3: BSZ0909NSCT-ND; Supplier 4: Digi-Key; Supplier Part Number 4: BSZ0909NSDKR-ND; Halogen-free: TRUE; Packing: Reel; RthJC (max): 5.1 K/W; Mounting Technology: Surface Mount; ComponentLink1Description: Manufacturer URL; ComponentLink1URL: http://www.infineon.com/; ComponentLink2Description: Datasheet; ComponentLink2URL: http://www.infineon.com/dgdl/BSZ0909NS_rev3.2.pdf?folderId=db3a304313b8b5a60113cee8ed2a02db&fileId=db3a3043284aacd80128827726205408; ComponentLink3Description: Package Specification; ComponentLink3URL: http://www.infineon.com/dgdl/BSZ240N12NS3+Rev2.0.pdf?folderId=db3a304313b8b5a60113cee8763b02d7&fileId=db3a30432a40a650012a42f3057a0038
footprint INF-PG-TSDSON-8-1_V (TSDSON, 8-Leads, Body 3.3x3.3mm, Pitch 0.65mm)
pins: 1 SOURCE, 2 SOURCE, 3 SOURCE, 4 GATE, 5 DRAIN, 6 DRAIN, 7 DRAIN, 8 DRAIN
text: 5, 6, 7, 8; 1, 2, 3

## BUZ30A H
designator Q?
N-Channel SIPMOS Power-Transistor, 200 V VDS, 21 A ID, -55 to 150 degC, PG-TO220-3-1, Tube, Green; Manufacturer: Infineon; PartNumber: BUZ30A H; Green: TRUE; ID (max): 21 A; IDpuls (max): 84 A; Polarity: N; Ptot (max): 125 W; RDS (on) (max): 130 mOhm; Rth: 1 K/W; RthJA (max): 75 K/W; VDS (max): 200 V; VGS(th) (max): 4 V; VGS(th) (min): 2.1 V; DatasheetVersion: Rev. 2.5; PackageVersion: Rev. 05, 08/2007; PackageReference: PG-TO220-3-1; PackageDescription: 3-Pin Plastic (Green) Transistor Single Outline Package, 10.03 x 8.98 mm Body, 2.54 mm Pitch; Supplier 1: Mouser; Supplier Part Number 1: 726-BUZ30AH; Supplier 2: Digi-Key; Supplier Part Number 2: BUZ30A H-ND; Halogen-free: TRUE; Packing: Tube; RthJC (max): 1 K/W; Mounting Technology: Through Hole; ComponentLink1Description: Manufacturer URL; ComponentLink1URL: http://www.infineon.com/; ComponentLink2Description: Datasheet; ComponentLink2URL: http://www.infineon.com/dgdl/Buz30A+H+Rev+2.5.pdf?folderId=db3a304325305e6d012596c6ca7b290a&fileId=db3a304325305e6d012596c75fb1290b; ComponentLink3Description: Package Specification; ComponentLink3URL: http://www.infineon.com/dgdl/IPP028N08N3_Rev1%5B1%5D.0.pdf?folderId=db3a304313b8b5a60113cee8763b02d7&fileId=db3a30432313ff5e0123a3c08e7326b5
footprint INF-PG-TO220-3-1_A_V (FM, 3-Leads, Body 10.03x8.98mm, Pitch 2.54mm)
pins: 1 G, 2 D, 3 S

## BUZ30A H3045A
designator Q?
N-Channel SIPMOS Power-Transistor, 200 V VDS, 21 A ID, -55 to 150 degC, PG-TO-263-3-2, Reel, Green; Manufacturer: Infineon; PartNumber: BUZ30A H3045A; Green: TRUE; ID (max): 21 A; IDpuls (max): 84 A; Polarity: N; Ptot (max): 125 W; RDS (on) (max): 130 mOhm; Rth: 1 K/W; RthJA (max): 75 K/W; VDS (max): 200 V; VGS(th) (max): 4 V; VGS(th) (min): 2.1 V; DatasheetVersion: Rev. 2.2; PackageVersion: Rev. 01, 08/2007; PackageReference: PG-TO-263-3-2; PackageDescription: 3-Pin Plastic (Green) Transistor Single Outline Package, 10.06 x 8.98 mm Body, 2.54 mm Pitch; Supplier 1: Mouser; Supplier Part Number 1: 726-BUZ30AH3045A; Supplier 2: Digi-Key; Supplier Part Number 2: BUZ30AH3045AINTR-ND; Supplier 3: Digi-Key; Supplier Part Number 3: BUZ30AH3045AINCT-ND; Supplier 4: Digi-Key; Supplier Part Number 4: BUZ30AH3045AINDKR-ND; Halogen-free: TRUE; Packing: Reel; RthJC (max): 1 K/W; Mounting Technology: Surface Mount; ComponentLink1Description: Manufacturer URL; ComponentLink1URL: http://www.infineon.com/; ComponentLink2Description: Datasheet; ComponentLink2URL: http://www.infineon.com/dgdl/Buz30a+H3045A+Rev+2.2.pdf?folderId=db3a304325305e6d012596c6ca7b290a&fileId=db3a304325305e6d012596cd45e4290f; ComponentLink3Description: Package Specification; ComponentLink3URL: http://www.infineon.com/dgdl/IPB026N06N_Rev2.2.pdf?folderId=db3a304313b8b5a60113cee8763b02d7&fileId=db3a3043372d5cc8013754c7b2a74f7c
footprint INF-PG-TO-263-3-2_A_N (DPAK, 3-Leads, Body 10.06x8.98mm, Pitch 2.54mm, IPC Medium Density)
footprint INF-PG-TO-263-3-2_A_L (DPAK, 3-Leads, Body 10.06x8.98mm, Pitch 2.54mm, IPC High Density)
footprint INF-PG-TO-263-3-2_A_M (DPAK, 3-Leads, Body 10.06x8.98mm, Pitch 2.54mm, IPC Low Density)
pins: 1 G, 2 D, 3 S

## BUZ30A H SMD
designator Q?
N-Channel SIPMOS(R) Power Transistor, 200 V VDS, 21 A ID, PG-TO263-3, Reel, Green; Manufacturer: Infineon; PartNumber: BUZ30A H SMD; Green: TRUE; ID (max): 21 A; IDpuls (max): 84 A; Polarity: N; Ptot (max): 125 W; RDS (on) (max): 130 mOhm; RthJA (max): 75 K/W; VDS (max): 200 V; VGS(th) (max): 4 V; VGS(th) (min): 2.1 V; DatasheetVersion: Rev. 2.2; PackageVersion: Jul-09; PackageReference: PG-TO263-3-2; PackageDescription: 3-Pin Plastic (Green) Transistor Single Outline Package, 10 x 9.25 mm Body, 2.54 mm Pitch; Halogen-free: TRUE; Packing: Reel; Technology: SIPMOS(R); Mounting Technology: Surface Mount; ComponentLink1Description: Manufacturer URL; ComponentLink1URL: http://www.infineon.com/; ComponentLink2Description: Datasheet; ComponentLink2URL: http://www.infineon.com/dgdl/Buz30a+H3045A+Rev+2.2.pdf?folderId=db3a304325305e6d012596c6ca7b290a&fileId=db3a304325305e6d012596cd45e4290f; ComponentLink3Description: Package Specification; ComponentLink3URL: http://www.infineon.com/dgdl/Buz30a+H3045A+Rev+2.2.pdf?folderId=db3a304325305e6d012596c6ca7b290a&fileId=db3a304325305e6d012596cd45e4290f
footprint INF-PG-TO263-3-2_N (DPAK, 3-Leads, Body 10x9.25mm, Pitch 2.54mm, IPC Medium Density)
footprint INF-PG-TO263-3-2_L (DPAK, 3-Leads, Body 10x9.25mm, Pitch 2.54mm, IPC High Density)
footprint INF-PG-TO263-3-2_M (DPAK, 3-Leads, Body 10x9.25mm, Pitch 2.54mm, IPC Low Density)
pins: 1 GATE, 2 DRAIN, 3 SOURCE

## BUZ31 H
designator Q?
N-Channel SIPMOS Power-Transistor, 200 V VDS, 14.5 A ID, -55 to 150 degC, PG-TO220-3-1, Tube, Green; Manufacturer: Infineon; PartNumber: BUZ31 H; Green: TRUE; ID (max): 14.5 A; IDpuls (max): 58 A; Polarity: N; Ptot (max): 95 W; RDS (on) (max): 200 mOhm; Rth: 1.32 K/W; RthJA (max): 75 K/W; VDS (max): 200 V; VGS(th) (max): 4 V; VGS(th) (min): 2.1 V; DatasheetVersion: Rev. 2.5; PackageVersion: Rev. 05, 08/2007; PackageReference: PG-TO220-3-1; PackageDescription: 3-Pin Plastic (Green) Transistor Single Outline Package, 10.03 x 8.98 mm Body, 2.54 mm Pitch; Supplier 1: Mouser; Supplier Part Number 1: 726-BUZ31H; Supplier 2: Digi-Key; Supplier Part Number 2: BUZ31 H-ND; Halogen-free: TRUE; Packing: Tube; RthJC (max): 1.32 K/W; Mounting Technology: Through Hole; ComponentLink1Description: Manufacturer URL; ComponentLink1URL: http://www.infineon.com/; ComponentLink2Description: Datasheet; ComponentLink2URL: http://www.infineon.com/dgdl/Buz31+H_+Rev+2.5.pdf?folderId=db3a304325305e6d012596c6ca7b290a&fileId=db3a304325305e6d01259711c14e2915; ComponentLink3Description: Package Specification; ComponentLink3URL: http://www.infineon.com/dgdl/IPP028N08N3_Rev1%5B1%5D.0.pdf?folderId=db3a304313b8b5a60113cee8763b02d7&fileId=db3a30432313ff5e0123a3c08e7326b5
footprint INF-PG-TO220-3-1_A_V (FM, 3-Leads, Body 10.03x8.98mm, Pitch 2.54mm)
pins: 1 G, 2 D, 3 S

## BUZ31 H3045A
designator Q?
N-Channel SIPMOS Power-Transistor, 200 V VDS, 14.5 A ID, -55 to 150 degC, PG-TO-263-3-2, Reel, Green; Manufacturer: Infineon; PartNumber: BUZ31 H3045A; Green: TRUE; ID (max): 14.5 A; IDpuls (max): 58 A; Polarity: N; Ptot (max): 95 W; RDS (on) (max): 200 mOhm; Rth: 1.32 K/W; RthJA (max): 75 K/W; VDS (max): 200 V; VGS(th) (max): 4 V; VGS(th) (min): 2.1 V; DatasheetVersion: Rev. 2.1; PackageVersion: Rev. 01, 08/2007; PackageReference: PG-TO-263-3-2; PackageDescription: 3-Pin Plastic (Green) Transistor Single Outline Package, 10.06 x 8.98 mm Body, 2.54 mm Pitch; Supplier 1: Mouser; Supplier Part Number 1: 726-BUZ31H3045A; Supplier 2: Digi-Key; Supplier Part Number 2: BUZ31 H3045ATR-ND; Supplier 3: Digi-Key; Supplier Part Number 3: BUZ31 H3045ACT-ND; Supplier 4: Digi-Key; Supplier Part Number 4: BUZ31 H3045ADKR-ND; Halogen-free: TRUE; Packing: Reel; RthJC (max): 1.32 K/W; Mounting Technology: Surface Mount; ComponentLink1Description: Manufacturer URL; ComponentLink1URL: http://www.infineon.com/; ComponentLink2Description: Datasheet; ComponentLink2URL: http://www.infineon.com/dgdl/BUZ31+H3045+A+Rev+2.1.pdf?folderId=db3a304325305e6d012596c6ca7b290a&fileId=db3a304325305e6d0125971c90292922; ComponentLink3Description: Package Specification; ComponentLink3URL: http://www.infineon.com/dgdl/IPB026N06N_Rev2.2.pdf?folderId=db3a304313b8b5a60113cee8763b02d7&fileId=db3a3043372d5cc8013754c7b2a74f7c
footprint INF-PG-TO-263-3-2_A_N (DPAK, 3-Leads, Body 10.06x8.98mm, Pitch 2.54mm, IPC Medium Density)
footprint INF-PG-TO-263-3-2_A_L (DPAK, 3-Leads, Body 10.06x8.98mm, Pitch 2.54mm, IPC High Density)
footprint INF-PG-TO-263-3-2_A_M (DPAK, 3-Leads, Body 10.06x8.98mm, Pitch 2.54mm, IPC Low Density)
pins: 1 G, 2 D, 3 S

## BUZ31 H3046
designator Q?
N-Channel SIPMOS Power-Transistor, 200 V VDS, 14.5 A ID, -55 to 150 degC, PG-TO262-3-1, Tube, Green; Manufacturer: Infineon; PartNumber: BUZ31 H3046; Green: TRUE; ID (max): 14.5 A; IDpuls (max): 58 A; Polarity: N; Ptot (max): 95 W; RDS (on) (max): 200 mOhm; Rth: 1.32 K/W; RthJA (max): 75 K/W; VDS (max): 200 V; VGS(th) (max): 4 V; VGS(th) (min): 2.1 V; DatasheetVersion: Rev. 2.0; PackageVersion: Rev. 03, 05/2006; PackageReference: PG-TO262-3-1; PackageDescription: 3-Pin Plastic (Green) Transistor Single Outline Package, 10.03 x 8.98 mm Body, 2.54 mm Pitch; Halogen-free: TRUE; Packing: Tube; RthJC (max): 1.32 K/W; Mounting Technology: Through Hole; ComponentLink1Description: Manufacturer URL; ComponentLink1URL: http://www.infineon.com/; ComponentLink2Description: Datasheet; ComponentLink2URL: http://www.infineon.com/dgdl/Buz31+H3046_+Rev+2.pdf?folderId=db3a3043156fd5730115ff6c90c219fd&fileId=db3a30433b47825b013b852143eb396e; ComponentLink3Description: Package Specification; ComponentLink3URL: http://www.infineon.com/dgdl/DS_IPX65R420CFD_2_4.pdf?folderId=db3a3043156fd5730115c736bcc70ff2&fileId=db3a30432f91014f012f9c293f1a7399
footprint INF-PG-TO262-3-1_A (FM, 3-Leads, Body 10.03x4.436mm, Pitch 2.54mm)
pins: 1 G, 2 D, 3 S

## BUZ31L H
designator Q?
N-Channel SIPMOS Power-Transistor, 200 V VDS, 13.5 A ID, -55 to 150 degC, PG-TO220-3-1, Tube, Green; Manufacturer: Infineon; PartNumber: BUZ31L H; Green: TRUE; ID (max): 13.5 A; IDpuls (max): 54 A; Polarity: N; Ptot (max): 95 W; RDS (on) (max): 200 mOhm; Rth: 1.32 K/W; RthJA (max): 75 K/W; VDS (max): 200 V; VGS(th) (max): 2 V; VGS(th) (min): 1.2 V; DatasheetVersion: Rev. 2.4; PackageVersion: Rev. 05, 08/2007; PackageReference: PG-TO220-3-1; PackageDescription: 3-Pin Plastic (Green) Transistor Single Outline Package, 10.03 x 8.98 mm Body, 2.54 mm Pitch; Supplier 1: Mouser; Supplier Part Number 1: 726-BUZ31LH; Supplier 2: Digi-Key; Supplier Part Number 2: BUZ31L H-ND; Halogen-free: TRUE; Packing: Tube; RthJC (max): 1.32 K/W; Mounting Technology: Through Hole; ComponentLink1Description: Manufacturer URL; ComponentLink1URL: http://www.infineon.com/; ComponentLink2Description: Datasheet; ComponentLink2URL: http://www.infineon.com/dgdl/Buz31L+H_Rev+2.4.pdf?folderId=db3a304313b8b5a60113cee8763b02d7&fileId=db3a30432219ca8f012230650a58450e; ComponentLink3Description: Package Specification; ComponentLink3URL: http://www.infineon.com/dgdl/IPP028N08N3_Rev1%5B1%5D.0.pdf?folderId=db3a304313b8b5a60113cee8763b02d7&fileId=db3a30432313ff5e0123a3c08e7326b5
footprint INF-PG-TO220-3-1_A_V (FM, 3-Leads, Body 10.03x8.98mm, Pitch 2.54mm)
pins: 1 G, 2 D, 3 S

## BUZ32 H
designator Q?
N-Channel SIPMOS Power-Transistor, 200 V VDS, 9.5 A ID, -55 to 150 degC, PG-TO220-3-1, Tube, Green; Manufacturer: Infineon; PartNumber: BUZ32 H; Green: TRUE; ID (max): 9.5 A; IDpuls (max): 38 A; Polarity: N; Ptot (max): 75 W; RDS (on) (max): 400 mOhm; Rth: 1.67 K/W; RthJA (max): 75 K/W; VDS (max): 200 V; VGS(th) (max): 4 V; VGS(th) (min): 2.1 V; DatasheetVersion: Rev. 2.4; PackageVersion: Rev. 05, 08/2007; PackageReference: PG-TO220-3-1; PackageDescription: 3-Pin Plastic (Green) Transistor Single Outline Package, 10.03 x 8.98 mm Body, 2.54 mm Pitch; Supplier 1: Mouser; Supplier Part Number 1: 726-BUZ32H; Supplier 2: Digi-Key; Supplier Part Number 2: BUZ32 H-ND; Halogen-free: TRUE; Packing: Tube; RthJC (max): 1.67 K/W; Mounting Technology: Through Hole; ComponentLink1Description: Manufacturer URL; ComponentLink1URL: http://www.infineon.com/; ComponentLink2Description: Datasheet; ComponentLink2URL: http://www.infineon.com/dgdl/Buz32H_Rev+2.4.pdf?folderId=db3a304325305e6d012596c6ca7b290a&fileId=db3a304325305e6d012597161028291a; ComponentLink3Description: Package Specification; ComponentLink3URL: http://www.infineon.com/dgdl/IPP028N08N3_Rev1%5B1%5D.0.pdf?folderId=db3a304313b8b5a60113cee8763b02d7&fileId=db3a30432313ff5e0123a3c08e7326b5
footprint INF-PG-TO220-3-1_A_V (FM, 3-Leads, Body 10.03x8.98mm, Pitch 2.54mm)
pins: 1 G, 2 D, 3 S

## BUZ32 H3045A
designator Q?
N-Channel SIPMOS Power-Transistor, 200 V VDS, 9.5 A ID, -55 to 150 degC, PG-TO-263-3-2, Reel, Green; Manufacturer: Infineon; PartNumber: BUZ32 H3045A; Green: TRUE; ID (max): 9.5 A; IDpuls (max): 38 A; Polarity: N; Ptot (max): 75 W; RDS (on) (max): 400 mOhm; Rth: 1.67 K/W; RthJA (max): 75 K/W; VDS (max): 200 V; VGS(th) (max): 4 V; VGS(th) (min): 2.1 V; DatasheetVersion: Rev. 2.2; PackageVersion: Rev. 01, 08/2007; PackageReference: PG-TO-263-3-2; PackageDescription: 3-Pin Plastic (Green) Transistor Single Outline Package, 10.06 x 8.98 mm Body, 2.54 mm Pitch; Supplier 1: Digi-Key; Supplier Part Number 1: BUZ32H3045AIN-ND; Halogen-free: TRUE; Packing: Reel; RthJC (max): 1.67 K/W; Mounting Technology: Surface Mount; ComponentLink1Description: Manufacturer URL; ComponentLink1URL: http://www.infineon.com/; ComponentLink2Description: Datasheet; ComponentLink2URL: http://www.infineon.com/dgdl/BUZ32+H3045A+rev+2.2.pdf?folderId=db3a304325305e6d012596c6ca7b290a&fileId=db3a304325305e6d01259718c8d8291e; ComponentLink3Description: Package Specification; ComponentLink3URL: http://www.infineon.com/dgdl/IPB026N06N_Rev2.2.pdf?folderId=db3a304313b8b5a60113cee8763b02d7&fileId=db3a3043372d5cc8013754c7b2a74f7c
footprint INF-PG-TO-263-3-2_A_N (DPAK, 3-Leads, Body 10.06x8.98mm, Pitch 2.54mm, IPC Medium Density)
footprint INF-PG-TO-263-3-2_A_L (DPAK, 3-Leads, Body 10.06x8.98mm, Pitch 2.54mm, IPC High Density)
footprint INF-PG-TO-263-3-2_A_M (DPAK, 3-Leads, Body 10.06x8.98mm, Pitch 2.54mm, IPC Low Density)
pins: 1 G, 2 D, 3 S